# EAGLE library part N8X300I (library Signetics)
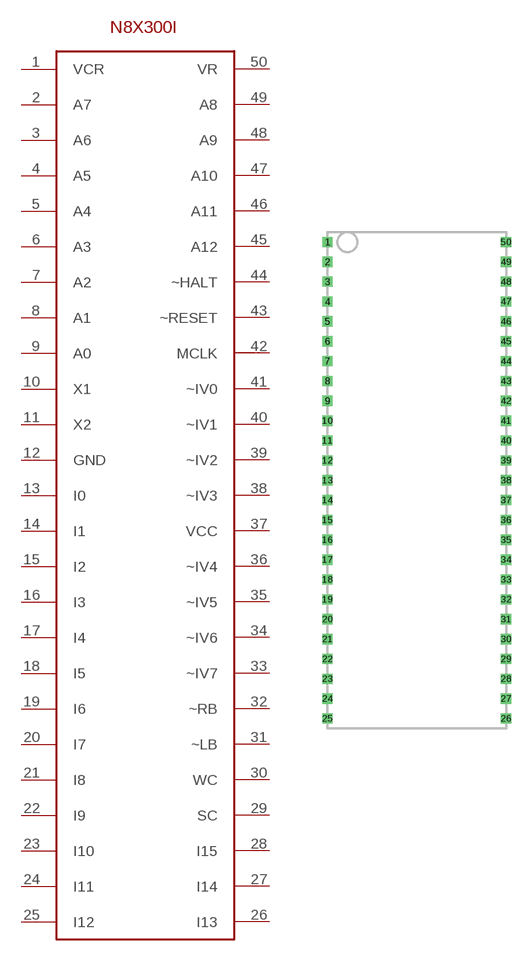
[diagram p0: symbol with the pads of N8X300I; footprint N8X300I]

Designator prefix -

## N8X300I  [N8X300I]
1  VCR
2  A7
3  A6
4  A5
5  A4
6  A3
7  A2
8  A1
9  A0
10  X1
11  X2
12  GND
13  I0
14  I1
15  I2
16  I3
17  I4
18  I5
19  I6
20  I7
21  I8
22  I9
23  I10
24  I11
25  I12
26  I13
27  I14
28  I15
29  SC
30  WC
31  ~LB
32  ~RB
33  ~IV7
34  ~IV6
35  ~IV5
36  ~IV4
37  VCC
38  ~IV3
39  ~IV2
40  ~IV1
41  ~IV0
42  MCLK
43  ~RESET
44  ~HALT
45  A12
46  A11
47  A10
48  A9
49  A8
50  VR

## Footprint N8X300I (pad centres in mm)
drill 0.8 square: 1 -11.43,30.48; 2 -11.43,27.94; 3 -11.43,25.4; 4 -11.43,22.86; 5 -11.43,20.32; 6 -11.43,17.78; 7 -11.43,15.24; 8 -11.43,12.7; 9 -11.43,10.16; 10 -11.43,7.62; 11 -11.43,5.08; 12 -11.43,2.54; 13 -11.43,0; 14 -11.43,-2.54; 15 -11.43,-5.08; 16 -11.43,-7.62; 17 -11.43,-10.16; 18 -11.43,-12.7; 19 -11.43,-15.24; 20 -11.43,-17.78; 21 -11.43,-20.32; 22 -11.43,-22.86; 23 -11.43,-25.4; 24 -11.43,-27.94; 25 -11.43,-30.48; 26 11.43,-30.48; 27 11.43,-27.94; 28 11.43,-25.4; 29 11.43,-22.86; 30 11.43,-20.32; 31 11.43,-17.78; 32 11.43,-15.24; 33 11.43,-12.7; 34 11.43,-10.16; 35 11.43,-7.62; 36 11.43,-5.08; 37 11.43,-2.54; 38 11.43,0; 39 11.43,2.54; 40 11.43,5.08; 41 11.43,7.62; 42 11.43,10.16; 43 11.43,12.7; 44 11.43,15.24; 45 11.43,17.78; 46 11.43,20.32; 47 11.43,22.86; 48 11.43,25.4; 49 11.43,27.94; 50 11.43,30.48